# Altium schematic symbol library SwitchButton.SchLib: 1 symbol
Pins are listed as number, name and electrical type; pins without a type are passive.

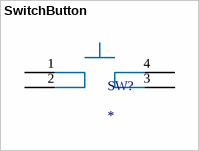
[diagram p0: symbol SwitchButton]

## SwitchButton
designator SW?
footprint SwitchMedium
pins: 1, 2, 3, 4